# Altium footprint library THT.PcbLib: 3 footprints
Each footprint in its own frame and in the unit in brackets; x right, y up, seen from the top. Pads: shape width x height; smd on the part's side, far side on the other; paste and mask are expansions set on the pad; w line width, h text height; cw(c..) or ccw(c..) is an arc to the next point about the centre after c.
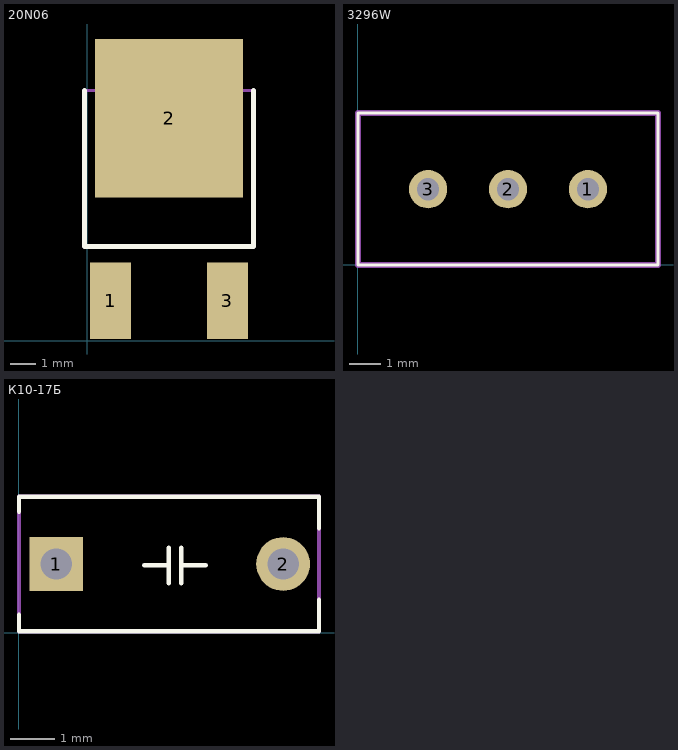
[diagram p0: the footprints below, top view; thin cyan lines are the x and y axes]

## 20N06 [mm]
pads (3):
  rect 1.6x3 smd: 1(0.912,1.575) 3(5.482,1.575)
  rect 5.8x6.2 smd: 2(3.197,8.714)
Top Overlay:
  lines w0.2: -0.103,9.799 -0.103,3.7 6.497,3.7 6.497,9.799
Mechanical 15:
  lines w0.1: -0.103,3.7 6.497,3.7 6.497,9.799 -0.103,9.799 -0.103,3.7
3D body "MCU20N06BHE3-TP.stp": height 2.33, standoff -0.04, extent -0.103,0.988 6.497,11.088

## 3296W [mm]
pads (3):
  round 1.217 hole 0.71: 1(7.317,2.408) 2(4.777,2.408) 3(2.237,2.408)
Top Overlay:
  lines w0.1: 0.012,-0.002 0.012,4.828 9.542,4.828 9.542,-0.002 0.012,-0.002
Mechanical 15:
  lines w0.2: 0.012,-0.002 0.012,4.828 9.542,4.828 9.542,-0.002 0.012,-0.002
3D body "3296W-1-125LF.stp": height 11.9, standoff -5, extent 0.012,-0.012 9.542,4.818

## К10-17Б [mm]
pads (2):
  rect 1.2x1.2 hole 0.7: 1(0.838,1.533)
  round 1.2 hole 0.7: 2(5.9,1.533)
Top Overlay:
  lines w0.1: 0.008,0.4 0.008,0.033 6.7,0.033 6.7,0.733 ; 0.008,2.7 0.008,3.033 6.7,3.033 6.7,2.333 ; 2.8,1.5 3.35,1.5 3.35,1.9 3.35,1.1 ; 3.625,1.9 3.625,1.1 3.625,1.5 4.175,1.5
Mechanical 15:
  lines w0.1: 0.008,0.033 6.7,0.033 6.7,3.033 0.008,3.033 0.008,0.033
3D body "TS170R1H103MSBFB0R.stp": height 4.51, standoff -9.2, extent 0.476,0 6.224,3